# Altium schematic symbol library Buttons.SchLib: 3 symbols
Pins are listed as number, name and electrical type; pins without a type are passive.

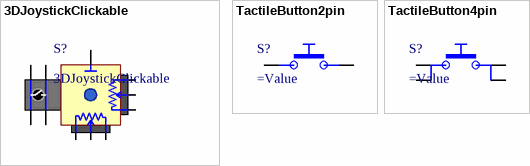
[diagram p0: symbols 3DJoystickClickable to TactileButton4pin]

## 3DJoystickClickable
designator S?
3D potentiometer with button; Datasheet: http://www.song-huei.com.tw/pdfimages/SJ11C.pdf
footprint SJ11C-B100K (3D potentiometer with button)
pins: 1 RESV, 2 RESV, 3 RESV, 4 RESV, 5 RESV, 6 RESV, 7 RESV, 8 RESV, 9 RESV, 10 RESV, 11

## TactileButton2pin
designator S?
SMD Tactile switch; Supplier: http://www.compel.ru/infosheet/TE/1437566-3; Price(1): 0.218; Price(100): 0.1817; Datasheet: http://www.te.com/usa-en/product-1437566-3.html; BOMString: =Footprint; Name: =Footprint
footprint 1437566-3
footprint TL3750
footprint ESE22MH24 (Detector Switch)
footprint B3U1000P (Ultra-small tactile switch)
footprint B3U1000PB (Ultra-small tactile switch)
footprint ESE22MV21T (Detector Switch)
footprint B3U3000P (Ultra-small tactile switch)
footprint B3U3000PB (Ultra-small tactile switch)
pins: 1, 2

## TactileButton4pin
designator S?
SMD Tactile switch; Supplier: http://www.compel.ru/infosheet/TE/1437566-3; Price(1): 0.218; Price(100): 0.1817; Datasheet: http://www.te.com/usa-en/product-1437566-3.html; BOMString: =Footprint; Name: =Footprint
footprint 5-1437565-0
footprint KLS7-TS5401 (Tactile switch)
footprint 1-1437565-6
footprint PTS530
footprint TS-1286VE-4 (Tactile switch)
pins: 1, 2, 3, 4